# EAGLE library part SN65LVDS84 (library TI)
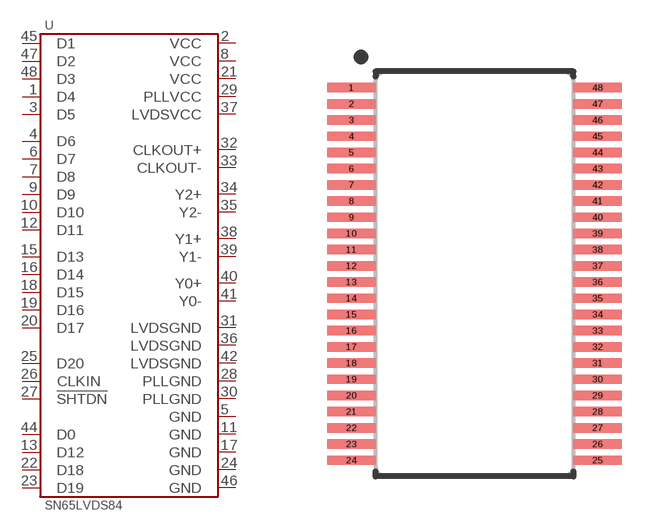
[diagram p11: symbol with the pads of TFSOP-48-6.1MM; footprint TFSOP-48-6.1MM]

Designator prefix U

## SN65LVDS84AQDGGRQ1  [TFSOP-48-6.1MM]
1  D4
2  VCC
3  D5
4  D6
5  GND
6  D7
7  D8
8  VCC
9  D9
10  D10
11  GND
12  D11
13  D12
15  D13
16  D14
17  GND
18  D15
19  D16
20  D17
21  VCC
22  D18
23  D19
24  GND
25  D20
26  CLKIN
27  !SHTDN
28  PLLGND
29  PLLVCC
30  PLLGND
31  LVDSGND
32  CLKOUT+
33  CLKOUT-
34  Y2+
35  Y2-
36  LVDSGND
37  LVDSVCC
38  Y1+
39  Y1-
40  Y0+
41  Y0-
42  LVDSGND
44  D0
45  D1
46  GND
47  D2
48  D3

## Footprint TFSOP-48-6.1MM (pad centres in mm)
smd 1.5 x 0.29: 1 -3.8,5.75; 2 -3.8,5.25; 3 -3.8,4.75; 4 -3.8,4.25; 5 -3.8,3.75; 6 -3.8,3.25; 7 -3.8,2.75; 8 -3.8,2.25; 9 -3.8,1.75; 10 -3.8,1.25; 11 -3.8,0.75; 12 -3.8,0.25; 13 -3.8,-0.25; 14 -3.8,-0.75; 15 -3.8,-1.25; 16 -3.8,-1.75; 17 -3.8,-2.25; 18 -3.8,-2.75; 19 -3.8,-3.25; 20 -3.8,-3.75; 21 -3.8,-4.25; 22 -3.8,-4.75; 23 -3.8,-5.25; 24 -3.8,-5.75; 25 3.8,-5.75; 26 3.8,-5.25; 27 3.8,-4.75; 28 3.8,-4.25; 29 3.8,-3.75; 30 3.8,-3.25; 31 3.8,-2.75; 32 3.8,-2.25; 33 3.8,-1.75; 34 3.8,-1.25; 35 3.8,-0.75; 36 3.8,-0.25; 37 3.8,0.25; 38 3.8,0.75; 39 3.8,1.25; 40 3.8,1.75; 41 3.8,2.25; 42 3.8,2.75; 43 3.8,3.25; 44 3.8,3.75; 45 3.8,4.25; 46 3.8,4.75; 47 3.8,5.25; 48 3.8,5.75